# Altium footprint library CONN_HDR_2.54MM_ST.PcbLib: 159 footprints (part 11 of 13)
Each footprint in its own frame and in the unit in brackets; x right, y up, seen from the top. Pads: shape width x height; smd on the part's side, far side on the other; paste and mask are expansions set on the pad; w line width, h text height; cw(c..) or ccw(c..) is an arc to the next point about the centre after c.
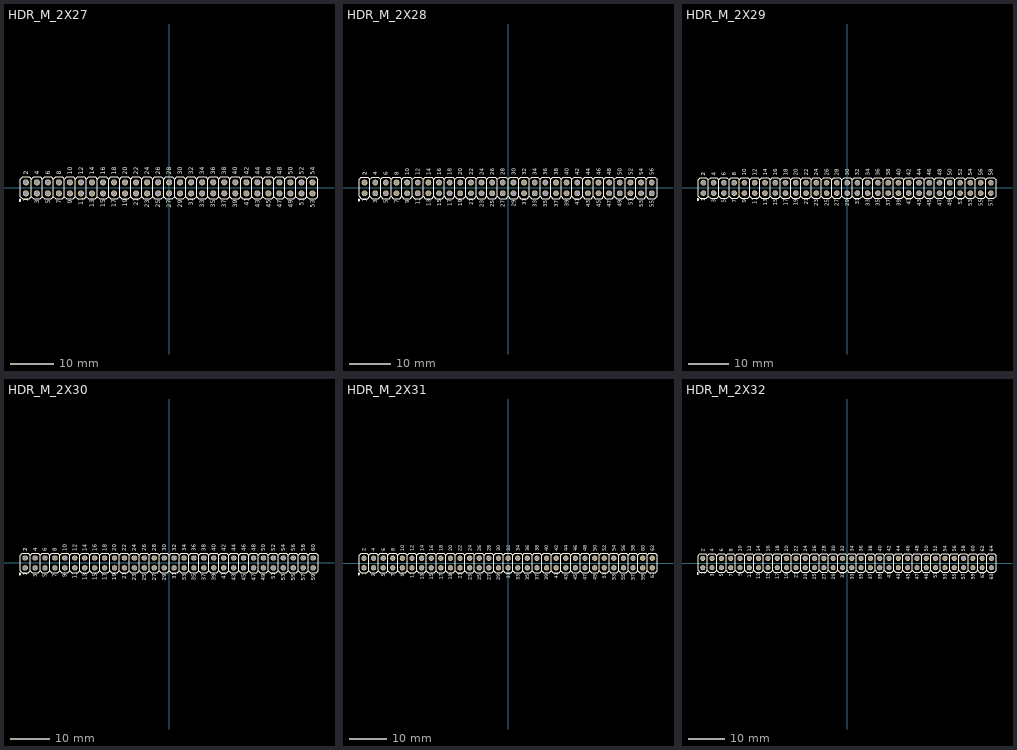
[diagram p10: the footprints below, top view; thin cyan lines are the x and y axes]

## HDR_M_2X27 [mm] "Male Header 2X27 with 2.54 mm Pitch"
pads (54):
  round 1.4 / inner round 1.4 / far side oval 1.4x2.2 hole 1: 1(-33.02,-1.27) 2(-33.02,1.27) 3(-30.48,-1.27) 4(-30.48,1.27) 5(-27.94,-1.27) 6(-27.94,1.27) 7(-25.4,-1.27) 8(-25.4,1.27) 9(-22.86,-1.27) 10(-22.86,1.27) 11(-20.32,-1.27) 12(-20.32,1.27) 13(-17.78,-1.27) 14(-17.78,1.27) 15(-15.24,-1.27) 16(-15.24,1.27) 17(-12.7,-1.27) 18(-12.7,1.27) 19(-10.16,-1.27) 20(-10.16,1.27) 21(-7.62,-1.27) 22(-7.62,1.27) 23(-5.08,-1.27) 24(-5.08,1.27) 25(-2.54,-1.27) 26(-2.54,1.27) 27(0,-1.27) 28(0,1.27) 29(2.54,-1.27) 30(2.54,1.27) 31(5.08,-1.27) 32(5.08,1.27) 33(7.62,-1.27) 34(7.62,1.27) 35(10.16,-1.27) 36(10.16,1.27) 37(12.7,-1.27) 38(12.7,1.27) 39(15.24,-1.27) 40(15.24,1.27) 41(17.78,-1.27) 42(17.78,1.27) 43(20.32,-1.27) 44(20.32,1.27) 45(22.86,-1.27) 46(22.86,1.27) 47(25.4,-1.27) 48(25.4,1.27) 49(27.94,-1.27) 50(27.94,1.27) 51(30.48,-1.27) 52(30.48,1.27) 53(33.02,-1.27) 54(33.02,1.27)
TopOverlay:
  drawing of 191 lines, arcs and shapes, not listed
  text "53" at 33.528,-4.572 h1
  text "54" at 33.528,3.048 h1
  text "51" at 30.988,-4.144 h1
  text "52" at 30.988,3.048 h1
  text "49" at 28.448,-4.524 h1
  text "50" at 28.448,3.048 h1
  text "47" at 25.908,-4.572 h1
  text "48" at 25.908,3.048 h1
  text "45" at 23.368,-4.572 h1
  text "46" at 23.368,3.048 h1
  text "43" at 20.828,-4.572 h1
  text "44" at 20.828,3.048 h1
  text "41" at 18.288,-4.144 h1
  text "42" at 18.288,3.048 h1
  text "39" at 15.748,-4.524 h1
  text "40" at 15.748,3.048 h1
  text "37" at 13.208,-4.572 h1
  text "38" at 13.208,3.048 h1
  text "35" at 10.668,-4.572 h1
  text "36" at 10.668,3.048 h1
  text "33" at 8.128,-4.572 h1
  text "34" at 8.128,3.048 h1
  text "31" at 5.588,-4.144 h1
  text "32" at 5.588,3.048 h1
  text "29" at 3.048,-4.524 h1
  text "30" at 3.048,3.048 h1
  text "27" at 0.508,-4.572 h1
  text "28" at 0.508,3.048 h1
  text "25" at -2.032,-4.572 h1
  text "26" at -2.032,3.048 h1
  text "23" at -4.572,-4.572 h1
  text "24" at -4.572,3.048 h1
  text "21" at -7.112,-4.144 h1
  text "22" at -7.112,3.048 h1
  text "19" at -9.652,-4.367 h1
  text "20" at -9.652,3.048 h1
  text "17" at -12.192,-4.415 h1
  text "18" at -12.192,3.048 h1
  text "15" at -14.732,-4.415 h1
  text "16" at -14.732,3.048 h1
  text "13" at -17.272,-4.415 h1
  text "14" at -17.272,3.048 h1
  text "11" at -19.812,-3.986 h1
  text "12" at -19.812,3.048 h1
  text "9" at -22.352,-3.634 h1
  text "10" at -22.352,3.048 h1
  text "7" at -24.892,-3.682 h1
  text "8" at -24.892,3.048 h1
  text "5" at -27.432,-3.682 h1
  text "6" at -27.432,3.048 h1
  text "3" at -29.972,-3.682 h1
  text "4" at -29.972,3.048 h1
  text "1" at -32.512,-3.253 h1
  text "2" at -32.512,3.048 h1
  text "2" at -32.512,3.048 h1
  text "1" at -32.512,-3.253 h1
3D body "PIN.STEP": height 8.43, standoff -2.49, extent -34.29,0 -31.75,2.54
3D body "PIN_mid.STEP": height 8.43, standoff -2.49, extent 31.75,-2.54 34.29,0
3D body "PIN_mid.STEP": height 8.43, standoff -2.49, extent 29.21,-2.54 31.75,0
3D body "PIN_mid.STEP": height 8.43, standoff -2.49, extent 26.67,-2.54 29.21,0
3D body "PIN_mid.STEP": height 8.43, standoff -2.49, extent 24.13,-2.54 26.67,0
3D body "PIN_mid.STEP": height 8.43, standoff -2.49, extent 21.59,-2.54 24.13,0
3D body "PIN_mid.STEP": height 8.43, standoff -2.49, extent 19.05,-2.54 21.59,0
3D body "PIN_mid.STEP": height 8.43, standoff -2.49, extent 16.51,-2.54 19.05,0
3D body "PIN_mid.STEP": height 8.43, standoff -2.49, extent 13.97,-2.54 16.51,0
3D body "PIN_mid.STEP": height 8.43, standoff -2.49, extent 11.43,-2.54 13.97,0
3D body "PIN_mid.STEP": height 8.43, standoff -2.49, extent 8.89,-2.54 11.43,0
3D body "PIN_mid.STEP": height 8.43, standoff -2.49, extent 6.35,-2.54 8.89,0
3D body "PIN_mid.STEP": height 8.43, standoff -2.49, extent 3.81,-2.54 6.35,0
3D body "PIN_mid.STEP": height 8.43, standoff -2.49, extent 1.27,-2.54 3.81,0
3D body "PIN_mid.STEP": height 8.43, standoff -2.49, extent -1.27,-2.54 1.27,0
3D body "PIN_mid.STEP": height 8.43, standoff -2.49, extent -3.81,-2.54 -1.27,0
3D body "PIN_mid.STEP": height 8.43, standoff -2.49, extent -6.35,-2.54 -3.81,0
3D body "PIN_mid.STEP": height 8.43, standoff -2.49, extent -8.89,-2.54 -6.35,0
3D body "PIN_mid.STEP": height 8.43, standoff -2.49, extent -11.43,-2.54 -8.89,0
3D body "PIN_mid.STEP": height 8.43, standoff -2.49, extent -13.97,-2.54 -11.43,0
3D body "PIN_mid.STEP": height 8.43, standoff -2.49, extent -16.51,-2.54 -13.97,0
3D body "PIN_mid.STEP": height 8.43, standoff -2.49, extent -19.05,-2.54 -16.51,0
3D body "PIN_mid.STEP": height 8.43, standoff -2.49, extent -21.59,-2.54 -19.05,0
3D body "PIN_mid.STEP": height 8.43, standoff -2.49, extent -24.13,-2.54 -21.59,0
3D body "PIN_mid.STEP": height 8.43, standoff -2.49, extent -26.67,-2.54 -24.13,0
3D body "PIN_mid.STEP": height 8.43, standoff -2.49, extent -29.21,-2.54 -26.67,0
3D body "PIN_mid.STEP": height 8.43, standoff -2.49, extent -31.75,-2.54 -29.21,0
3D body "PIN_mid.STEP": height 8.43, standoff -2.49, extent -31.75,0 -29.21,2.54
3D body "PIN_mid.STEP": height 8.43, standoff -2.49, extent 31.75,0 34.29,2.54
3D body "PIN_mid.STEP": height 8.43, standoff -2.49, extent 29.21,0 31.75,2.54
3D body "PIN_mid.STEP": height 8.43, standoff -2.49, extent 26.67,0 29.21,2.54
3D body "PIN_mid.STEP": height 8.43, standoff -2.49, extent 24.13,0 26.67,2.54
3D body "PIN_mid.STEP": height 8.43, standoff -2.49, extent 21.59,0 24.13,2.54
3D body "PIN_mid.STEP": height 8.43, standoff -2.49, extent 19.05,0 21.59,2.54
3D body "PIN_mid.STEP": height 8.43, standoff -2.49, extent 16.51,0 19.05,2.54
3D body "PIN_mid.STEP": height 8.43, standoff -2.49, extent 13.97,0 16.51,2.54
3D body "PIN_mid.STEP": height 8.43, standoff -2.49, extent 11.43,0 13.97,2.54
3D body "PIN_mid.STEP": height 8.43, standoff -2.49, extent 8.89,0 11.43,2.54
3D body "PIN_mid.STEP": height 8.43, standoff -2.49, extent 6.35,0 8.89,2.54
3D body "PIN_mid.STEP": height 8.43, standoff -2.49, extent 3.81,0 6.35,2.54
3D body "PIN_mid.STEP": height 8.43, standoff -2.49, extent 1.27,0 3.81,2.54
3D body "PIN_mid.STEP": height 8.43, standoff -2.49, extent -1.27,0 1.27,2.54
3D body "PIN_mid.STEP": height 8.43, standoff -2.49, extent -3.81,0 -1.27,2.54
3D body "PIN_mid.STEP": height 8.43, standoff -2.49, extent -6.35,0 -3.81,2.54
3D body "PIN_mid.STEP": height 8.43, standoff -2.49, extent -8.89,0 -6.35,2.54
3D body "PIN_mid.STEP": height 8.43, standoff -2.49, extent -11.43,0 -8.89,2.54
3D body "PIN_mid.STEP": height 8.43, standoff -2.49, extent -13.97,0 -11.43,2.54
3D body "PIN_mid.STEP": height 8.43, standoff -2.49, extent -16.51,0 -13.97,2.54
3D body "PIN_mid.STEP": height 8.43, standoff -2.49, extent -19.05,0 -16.51,2.54
3D body "PIN_mid.STEP": height 8.43, standoff -2.49, extent -21.59,0 -19.05,2.54
3D body "PIN_mid.STEP": height 8.43, standoff -2.49, extent -24.13,0 -21.59,2.54
3D body "PIN_mid.STEP": height 8.43, standoff -2.49, extent -26.67,0 -24.13,2.54
3D body "PIN_mid.STEP": height 8.43, standoff -2.49, extent -29.21,0 -26.67,2.54
3D body "PIN.STEP": height 8.43, standoff -2.49, extent -34.29,-2.54 -31.75,0

## HDR_M_2X28 [mm] "Male Header 2X28 with 2.54 mm Pitch"
pads (56):
  round 1.4 / inner round 1.4 / far side oval 1.4x2.2 hole 1: 1(-34.29,-1.27) 2(-34.29,1.27) 3(-31.75,-1.27) 4(-31.75,1.27) 5(-29.21,-1.27) 6(-29.21,1.27) 7(-26.67,-1.27) 8(-26.67,1.27) 9(-24.13,-1.27) 10(-24.13,1.27) 11(-21.59,-1.27) 12(-21.59,1.27) 13(-19.05,-1.27) 14(-19.05,1.27) 15(-16.51,-1.27) 16(-16.51,1.27) 17(-13.97,-1.27) 18(-13.97,1.27) 19(-11.43,-1.27) 20(-11.43,1.27) 21(-8.89,-1.27) 22(-8.89,1.27) 23(-6.35,-1.27) 24(-6.35,1.27) 25(-3.81,-1.27) 26(-3.81,1.27) 27(-1.27,-1.27) 28(-1.27,1.27) 29(1.27,-1.27) 30(1.27,1.27) 31(3.81,-1.27) 32(3.81,1.27) 33(6.35,-1.27) 34(6.35,1.27) 35(8.89,-1.27) 36(8.89,1.27) 37(11.43,-1.27) 38(11.43,1.27) 39(13.97,-1.27) 40(13.97,1.27) 41(16.51,-1.27) 42(16.51,1.27) 43(19.05,-1.27) 44(19.05,1.27) 45(21.59,-1.27) 46(21.59,1.27) 47(24.13,-1.27) 48(24.13,1.27) 49(26.67,-1.27) 50(26.67,1.27) 51(29.21,-1.27) 52(29.21,1.27) 53(31.75,-1.27) 54(31.75,1.27) 55(34.29,-1.27) 56(34.29,1.27)
TopOverlay:
  drawing of 198 lines, arcs and shapes, not listed
  text "1" at -33.782,-3.253 h1
  text "2" at -33.782,3.048 h1
  text "2" at -33.782,3.048 h1
  text "1" at -33.782,-3.253 h1
  text "4" at -31.242,3.048 h1
  text "3" at -31.242,-3.682 h1
  text "6" at -28.702,3.048 h1
  text "5" at -28.702,-3.682 h1
  text "8" at -26.162,3.048 h1
  text "7" at -26.162,-3.682 h1
  text "10" at -23.622,3.048 h1
  text "9" at -23.622,-3.634 h1
  text "12" at -21.082,3.048 h1
  text "11" at -21.082,-3.986 h1
  text "14" at -18.542,3.048 h1
  text "13" at -18.542,-4.415 h1
  text "16" at -16.002,3.048 h1
  text "15" at -16.002,-4.415 h1
  text "18" at -13.462,3.048 h1
  text "17" at -13.462,-4.415 h1
  text "20" at -10.922,3.048 h1
  text "19" at -10.922,-4.367 h1
  text "22" at -8.382,3.048 h1
  text "21" at -8.382,-4.144 h1
  text "24" at -5.842,3.048 h1
  text "23" at -5.842,-4.572 h1
  text "26" at -3.302,3.048 h1
  text "25" at -3.302,-4.572 h1
  text "28" at -0.762,3.048 h1
  text "27" at -0.762,-4.572 h1
  text "30" at 1.778,3.048 h1
  text "29" at 1.778,-4.524 h1
  text "32" at 4.318,3.048 h1
  text "31" at 4.318,-4.144 h1
  text "34" at 6.858,3.048 h1
  text "33" at 6.858,-4.572 h1
  text "36" at 9.398,3.048 h1
  text "35" at 9.398,-4.572 h1
  text "38" at 11.938,3.048 h1
  text "37" at 11.938,-4.572 h1
  text "40" at 14.478,3.048 h1
  text "39" at 14.478,-4.524 h1
  text "42" at 17.018,3.048 h1
  text "41" at 17.018,-4.144 h1
  text "44" at 19.558,3.048 h1
  text "43" at 19.558,-4.572 h1
  text "46" at 22.098,3.048 h1
  text "45" at 22.098,-4.572 h1
  text "48" at 24.638,3.048 h1
  text "47" at 24.638,-4.572 h1
  text "50" at 27.178,3.048 h1
  text "49" at 27.178,-4.524 h1
  text "52" at 29.718,3.048 h1
  text "51" at 29.718,-4.144 h1
  text "54" at 32.258,3.048 h1
  text "53" at 32.258,-4.572 h1
  text "56" at 34.798,3.048 h1
  text "55" at 34.798,-4.572 h1
3D body "PIN.STEP": height 8.43, standoff -2.49, extent -35.56,-2.54 -33.02,0
3D body "PIN_mid.STEP": height 8.43, standoff -2.49, extent -30.48,0 -27.94,2.54
3D body "PIN_mid.STEP": height 8.43, standoff -2.49, extent -27.94,0 -25.4,2.54
3D body "PIN_mid.STEP": height 8.43, standoff -2.49, extent -25.4,0 -22.86,2.54
3D body "PIN_mid.STEP": height 8.43, standoff -2.49, extent -22.86,0 -20.32,2.54
3D body "PIN_mid.STEP": height 8.43, standoff -2.49, extent -20.32,0 -17.78,2.54
3D body "PIN_mid.STEP": height 8.43, standoff -2.49, extent -17.78,0 -15.24,2.54
3D body "PIN_mid.STEP": height 8.43, standoff -2.49, extent -15.24,0 -12.7,2.54
3D body "PIN_mid.STEP": height 8.43, standoff -2.49, extent -12.7,0 -10.16,2.54
3D body "PIN_mid.STEP": height 8.43, standoff -2.49, extent -10.16,0 -7.62,2.54
3D body "PIN_mid.STEP": height 8.43, standoff -2.49, extent -7.62,0 -5.08,2.54
3D body "PIN_mid.STEP": height 8.43, standoff -2.49, extent -5.08,0 -2.54,2.54
3D body "PIN_mid.STEP": height 8.43, standoff -2.49, extent -2.54,0 0,2.54
3D body "PIN_mid.STEP": height 8.43, standoff -2.49, extent 0,0 2.54,2.54
3D body "PIN_mid.STEP": height 8.43, standoff -2.49, extent 2.54,0 5.08,2.54
3D body "PIN_mid.STEP": height 8.43, standoff -2.49, extent 5.08,0 7.62,2.54
3D body "PIN_mid.STEP": height 8.43, standoff -2.49, extent 7.62,0 10.16,2.54
3D body "PIN_mid.STEP": height 8.43, standoff -2.49, extent 10.16,0 12.7,2.54
3D body "PIN_mid.STEP": height 8.43, standoff -2.49, extent 12.7,0 15.24,2.54
3D body "PIN_mid.STEP": height 8.43, standoff -2.49, extent 15.24,0 17.78,2.54
3D body "PIN_mid.STEP": height 8.43, standoff -2.49, extent 17.78,0 20.32,2.54
3D body "PIN_mid.STEP": height 8.43, standoff -2.49, extent 20.32,0 22.86,2.54
3D body "PIN_mid.STEP": height 8.43, standoff -2.49, extent 22.86,0 25.4,2.54
3D body "PIN_mid.STEP": height 8.43, standoff -2.49, extent 25.4,0 27.94,2.54
3D body "PIN_mid.STEP": height 8.43, standoff -2.49, extent 27.94,0 30.48,2.54
3D body "PIN_mid.STEP": height 8.43, standoff -2.49, extent 30.48,0 33.02,2.54
3D body "PIN_mid.STEP": height 8.43, standoff -2.49, extent -33.02,0 -30.48,2.54
3D body "PIN_mid.STEP": height 8.43, standoff -2.49, extent -33.02,-2.54 -30.48,0
3D body "PIN_mid.STEP": height 8.43, standoff -2.49, extent -30.48,-2.54 -27.94,0
3D body "PIN_mid.STEP": height 8.43, standoff -2.49, extent -27.94,-2.54 -25.4,0
3D body "PIN_mid.STEP": height 8.43, standoff -2.49, extent -25.4,-2.54 -22.86,0
3D body "PIN_mid.STEP": height 8.43, standoff -2.49, extent -22.86,-2.54 -20.32,0
3D body "PIN_mid.STEP": height 8.43, standoff -2.49, extent -20.32,-2.54 -17.78,0
3D body "PIN_mid.STEP": height 8.43, standoff -2.49, extent -17.78,-2.54 -15.24,0
3D body "PIN_mid.STEP": height 8.43, standoff -2.49, extent -15.24,-2.54 -12.7,0
3D body "PIN_mid.STEP": height 8.43, standoff -2.49, extent -12.7,-2.54 -10.16,0
3D body "PIN_mid.STEP": height 8.43, standoff -2.49, extent -10.16,-2.54 -7.62,0
3D body "PIN_mid.STEP": height 8.43, standoff -2.49, extent -7.62,-2.54 -5.08,0
3D body "PIN_mid.STEP": height 8.43, standoff -2.49, extent -5.08,-2.54 -2.54,0
3D body "PIN_mid.STEP": height 8.43, standoff -2.49, extent -2.54,-2.54 0,0
3D body "PIN_mid.STEP": height 8.43, standoff -2.49, extent 0,-2.54 2.54,0
3D body "PIN_mid.STEP": height 8.43, standoff -2.49, extent 2.54,-2.54 5.08,0
3D body "PIN_mid.STEP": height 8.43, standoff -2.49, extent 5.08,-2.54 7.62,0
3D body "PIN_mid.STEP": height 8.43, standoff -2.49, extent 7.62,-2.54 10.16,0
3D body "PIN_mid.STEP": height 8.43, standoff -2.49, extent 10.16,-2.54 12.7,0
3D body "PIN_mid.STEP": height 8.43, standoff -2.49, extent 12.7,-2.54 15.24,0
3D body "PIN_mid.STEP": height 8.43, standoff -2.49, extent 15.24,-2.54 17.78,0
3D body "PIN_mid.STEP": height 8.43, standoff -2.49, extent 17.78,-2.54 20.32,0
3D body "PIN_mid.STEP": height 8.43, standoff -2.49, extent 20.32,-2.54 22.86,0
3D body "PIN_mid.STEP": height 8.43, standoff -2.49, extent 22.86,-2.54 25.4,0
3D body "PIN_mid.STEP": height 8.43, standoff -2.49, extent 25.4,-2.54 27.94,0
3D body "PIN_mid.STEP": height 8.43, standoff -2.49, extent 27.94,-2.54 30.48,0
3D body "PIN_mid.STEP": height 8.43, standoff -2.49, extent 30.48,-2.54 33.02,0
3D body "PIN.STEP": height 8.43, standoff -2.49, extent -35.56,0 -33.02,2.54
3D body "PIN.STEP": height 8.43, standoff -2.49, extent 33.02,0 35.56,2.54
3D body "PIN.STEP": height 8.43, standoff -2.49, extent 33.02,-2.54 35.56,0

## HDR_M_2X29 [mm] "Male Header with 2.54 mm Pitch"
pads (58):
  round 1.4 / inner round 1.4 / far side oval 1.4x2.2 hole 1: 1(-35.56,-1.27) 2(-35.56,1.27) 3(-33.02,-1.27) 4(-33.02,1.27) 5(-30.48,-1.27) 6(-30.48,1.27) 7(-27.94,-1.27) 8(-27.94,1.27) 9(-25.4,-1.27) 10(-25.4,1.27) 11(-22.86,-1.27) 12(-22.86,1.27) 13(-20.32,-1.27) 14(-20.32,1.27) 15(-17.78,-1.27) 16(-17.78,1.27) 17(-15.24,-1.27) 18(-15.24,1.27) 19(-12.7,-1.27) 20(-12.7,1.27) 21(-10.16,-1.27) 22(-10.16,1.27) 23(-7.62,-1.27) 24(-7.62,1.27) 25(-5.08,-1.27) 26(-5.08,1.27) 27(-2.54,-1.27) 28(-2.54,1.27) 29(0,-1.27) 30(0,1.27) 31(2.54,-1.27) 32(2.54,1.27) 33(5.08,-1.27) 34(5.08,1.27) 35(7.62,-1.27) 36(7.62,1.27) 37(10.16,-1.27) 38(10.16,1.27) 39(12.7,-1.27) 40(12.7,1.27) 41(15.24,-1.27) 42(15.24,1.27) 43(17.78,-1.27) 44(17.78,1.27) 45(20.32,-1.27) 46(20.32,1.27) 47(22.86,-1.27) 48(22.86,1.27) 49(25.4,-1.27) 50(25.4,1.27) 51(27.94,-1.27) 52(27.94,1.27) 53(30.48,-1.27) 54(30.48,1.27) 55(33.02,-1.27) 56(33.02,1.27) 57(35.56,-1.27) 58(35.56,1.27)
TopOverlay:
  drawing of 205 lines, arcs and shapes, not listed
  text "57" at 36.068,-4.572 h1
  text "58" at 36.068,3.048 h1
  text "55" at 33.528,-4.572 h1
  text "56" at 33.528,3.048 h1
  text "53" at 30.988,-4.572 h1
  text "54" at 30.988,3.048 h1
  text "51" at 28.448,-4.144 h1
  text "52" at 28.448,3.048 h1
  text "49" at 25.908,-4.524 h1
  text "50" at 25.908,3.048 h1
  text "47" at 23.368,-4.572 h1
  text "48" at 23.368,3.048 h1
  text "45" at 20.828,-4.572 h1
  text "46" at 20.828,3.048 h1
  text "43" at 18.288,-4.572 h1
  text "44" at 18.288,3.048 h1
  text "41" at 15.748,-4.144 h1
  text "42" at 15.748,3.048 h1
  text "39" at 13.208,-4.524 h1
  text "40" at 13.208,3.048 h1
  text "37" at 10.668,-4.572 h1
  text "38" at 10.668,3.048 h1
  text "35" at 8.128,-4.572 h1
  text "36" at 8.128,3.048 h1
  text "33" at 5.588,-4.572 h1
  text "34" at 5.588,3.048 h1
  text "31" at 3.048,-4.144 h1
  text "32" at 3.048,3.048 h1
  text "29" at 0.508,-4.524 h1
  text "30" at 0.508,3.048 h1
  text "27" at -2.032,-4.572 h1
  text "28" at -2.032,3.048 h1
  text "25" at -4.572,-4.572 h1
  text "26" at -4.572,3.048 h1
  text "23" at -7.112,-4.572 h1
  text "24" at -7.112,3.048 h1
  text "21" at -9.652,-4.144 h1
  text "22" at -9.652,3.048 h1
  text "19" at -12.192,-4.367 h1
  text "20" at -12.192,3.048 h1
  text "17" at -14.732,-4.415 h1
  text "18" at -14.732,3.048 h1
  text "15" at -17.272,-4.415 h1
  text "16" at -17.272,3.048 h1
  text "13" at -19.812,-4.415 h1
  text "14" at -19.812,3.048 h1
  text "11" at -22.352,-3.986 h1
  text "12" at -22.352,3.048 h1
  text "9" at -24.892,-3.634 h1
  text "10" at -24.892,3.048 h1
  text "7" at -27.432,-3.682 h1
  text "8" at -27.432,3.048 h1
  text "5" at -29.972,-3.682 h1
  text "6" at -29.972,3.048 h1
  text "3" at -32.512,-3.682 h1
  text "4" at -32.512,3.048 h1
  text "1" at -35.052,-3.253 h1
  text "2" at -35.052,3.048 h1
  text "2" at -35.052,3.048 h1
  text "1" at -35.052,-3.253 h1
3D body "PIN.STEP": height 8.43, standoff -2.49, extent -36.83,0 -34.29,2.54
3D body "PIN_mid.STEP": height 8.43, standoff -2.49, extent 34.29,-2.54 36.83,0
3D body "PIN_mid.STEP": height 8.43, standoff -2.49, extent 31.75,-2.54 34.29,0
3D body "PIN_mid.STEP": height 8.43, standoff -2.49, extent 29.21,-2.54 31.75,0
3D body "PIN_mid.STEP": height 8.43, standoff -2.49, extent 26.67,-2.54 29.21,0
3D body "PIN_mid.STEP": height 8.43, standoff -2.49, extent 24.13,-2.54 26.67,0
3D body "PIN_mid.STEP": height 8.43, standoff -2.49, extent 21.59,-2.54 24.13,0
3D body "PIN_mid.STEP": height 8.43, standoff -2.49, extent 19.05,-2.54 21.59,0
3D body "PIN_mid.STEP": height 8.43, standoff -2.49, extent 16.51,-2.54 19.05,0
3D body "PIN_mid.STEP": height 8.43, standoff -2.49, extent 13.97,-2.54 16.51,0
3D body "PIN_mid.STEP": height 8.43, standoff -2.49, extent 11.43,-2.54 13.97,0
3D body "PIN_mid.STEP": height 8.43, standoff -2.49, extent 8.89,-2.54 11.43,0
3D body "PIN_mid.STEP": height 8.43, standoff -2.49, extent 6.35,-2.54 8.89,0
3D body "PIN_mid.STEP": height 8.43, standoff -2.49, extent 3.81,-2.54 6.35,0
3D body "PIN_mid.STEP": height 8.43, standoff -2.49, extent 1.27,-2.54 3.81,0
3D body "PIN_mid.STEP": height 8.43, standoff -2.49, extent -1.27,-2.54 1.27,0
3D body "PIN_mid.STEP": height 8.43, standoff -2.49, extent -3.81,-2.54 -1.27,0
3D body "PIN_mid.STEP": height 8.43, standoff -2.49, extent -6.35,-2.54 -3.81,0
3D body "PIN_mid.STEP": height 8.43, standoff -2.49, extent -8.89,-2.54 -6.35,0
3D body "PIN_mid.STEP": height 8.43, standoff -2.49, extent -11.43,-2.54 -8.89,0
3D body "PIN_mid.STEP": height 8.43, standoff -2.49, extent -13.97,-2.54 -11.43,0
3D body "PIN_mid.STEP": height 8.43, standoff -2.49, extent -16.51,-2.54 -13.97,0
3D body "PIN_mid.STEP": height 8.43, standoff -2.49, extent -19.05,-2.54 -16.51,0
3D body "PIN_mid.STEP": height 8.43, standoff -2.49, extent -21.59,-2.54 -19.05,0
3D body "PIN_mid.STEP": height 8.43, standoff -2.49, extent -24.13,-2.54 -21.59,0
3D body "PIN_mid.STEP": height 8.43, standoff -2.49, extent -26.67,-2.54 -24.13,0
3D body "PIN_mid.STEP": height 8.43, standoff -2.49, extent -29.21,-2.54 -26.67,0
3D body "PIN_mid.STEP": height 8.43, standoff -2.49, extent -31.75,-2.54 -29.21,0
3D body "PIN_mid.STEP": height 8.43, standoff -2.49, extent -34.29,-2.54 -31.75,0
3D body "PIN_mid.STEP": height 8.43, standoff -2.49, extent -34.29,0 -31.75,2.54
3D body "PIN_mid.STEP": height 8.43, standoff -2.49, extent 34.29,0 36.83,2.54
3D body "PIN_mid.STEP": height 8.43, standoff -2.49, extent 31.75,0 34.29,2.54
3D body "PIN_mid.STEP": height 8.43, standoff -2.49, extent 29.21,0 31.75,2.54
3D body "PIN_mid.STEP": height 8.43, standoff -2.49, extent 26.67,0 29.21,2.54
3D body "PIN_mid.STEP": height 8.43, standoff -2.49, extent 24.13,0 26.67,2.54
3D body "PIN_mid.STEP": height 8.43, standoff -2.49, extent 21.59,0 24.13,2.54
3D body "PIN_mid.STEP": height 8.43, standoff -2.49, extent 19.05,0 21.59,2.54
3D body "PIN_mid.STEP": height 8.43, standoff -2.49, extent 16.51,0 19.05,2.54
3D body "PIN_mid.STEP": height 8.43, standoff -2.49, extent 13.97,0 16.51,2.54
3D body "PIN_mid.STEP": height 8.43, standoff -2.49, extent 11.43,0 13.97,2.54
3D body "PIN_mid.STEP": height 8.43, standoff -2.49, extent 8.89,0 11.43,2.54
3D body "PIN_mid.STEP": height 8.43, standoff -2.49, extent 6.35,0 8.89,2.54
3D body "PIN_mid.STEP": height 8.43, standoff -2.49, extent 3.81,0 6.35,2.54
3D body "PIN_mid.STEP": height 8.43, standoff -2.49, extent 1.27,0 3.81,2.54
3D body "PIN_mid.STEP": height 8.43, standoff -2.49, extent -1.27,0 1.27,2.54
3D body "PIN_mid.STEP": height 8.43, standoff -2.49, extent -3.81,0 -1.27,2.54
3D body "PIN_mid.STEP": height 8.43, standoff -2.49, extent -6.35,0 -3.81,2.54
3D body "PIN_mid.STEP": height 8.43, standoff -2.49, extent -8.89,0 -6.35,2.54
3D body "PIN_mid.STEP": height 8.43, standoff -2.49, extent -11.43,0 -8.89,2.54
3D body "PIN_mid.STEP": height 8.43, standoff -2.49, extent -13.97,0 -11.43,2.54
3D body "PIN_mid.STEP": height 8.43, standoff -2.49, extent -16.51,0 -13.97,2.54
3D body "PIN_mid.STEP": height 8.43, standoff -2.49, extent -19.05,0 -16.51,2.54
3D body "PIN_mid.STEP": height 8.43, standoff -2.49, extent -21.59,0 -19.05,2.54
3D body "PIN_mid.STEP": height 8.43, standoff -2.49, extent -24.13,0 -21.59,2.54
3D body "PIN_mid.STEP": height 8.43, standoff -2.49, extent -26.67,0 -24.13,2.54
3D body "PIN_mid.STEP": height 8.43, standoff -2.49, extent -29.21,0 -26.67,2.54
3D body "PIN_mid.STEP": height 8.43, standoff -2.49, extent -31.75,0 -29.21,2.54
3D body "PIN.STEP": height 8.43, standoff -2.49, extent -36.83,-2.54 -34.29,0

## HDR_M_2X30 [mm] "Male Header 2X30 with 2.54 mm Pitch"
pads (60):
  round 1.4 / inner round 1.4 / far side oval 1.4x2.2 hole 1: 1(-36.83,-1.27) 2(-36.83,1.27) 3(-34.29,-1.27) 4(-34.29,1.27) 5(-31.75,-1.27) 6(-31.75,1.27) 7(-29.21,-1.27) 8(-29.21,1.27) 9(-26.67,-1.27) 10(-26.67,1.27) 11(-24.13,-1.27) 12(-24.13,1.27) 13(-21.59,-1.27) 14(-21.59,1.27) 15(-19.05,-1.27) 16(-19.05,1.27) 17(-16.51,-1.27) 18(-16.51,1.27) 19(-13.97,-1.27) 20(-13.97,1.27) 21(-11.43,-1.27) 22(-11.43,1.27) 23(-8.89,-1.27) 24(-8.89,1.27) 25(-6.35,-1.27) 26(-6.35,1.27) 27(-3.81,-1.27) 28(-3.81,1.27) 29(-1.27,-1.27) 30(-1.27,1.27) 31(1.27,-1.27) 32(1.27,1.27) 33(3.81,-1.27) 34(3.81,1.27) 35(6.35,-1.27) 36(6.35,1.27) 37(8.89,-1.27) 38(8.89,1.27) 39(11.43,-1.27) 40(11.43,1.27) 41(13.97,-1.27) 42(13.97,1.27) 43(16.51,-1.27) 44(16.51,1.27) 45(19.05,-1.27) 46(19.05,1.27) 47(21.59,-1.27) 48(21.59,1.27) 49(24.13,-1.27) 50(24.13,1.27) 51(26.67,-1.27) 52(26.67,1.27) 53(29.21,-1.27) 54(29.21,1.27) 55(31.75,-1.27) 56(31.75,1.27) 57(34.29,-1.27) 58(34.29,1.27) 59(36.83,-1.27) 60(36.83,1.27)
TopOverlay:
  drawing of 212 lines, arcs and shapes, not listed
  text "59" at 37.338,-4.524 h1
  text "60" at 37.338,3.048 h1
  text "57" at 34.798,-4.572 h1
  text "58" at 34.798,3.048 h1
  text "55" at 32.258,-4.572 h1
  text "56" at 32.258,3.048 h1
  text "53" at 29.718,-4.572 h1
  text "54" at 29.718,3.048 h1
  text "51" at 27.178,-4.144 h1
  text "52" at 27.178,3.048 h1
  text "49" at 24.638,-4.524 h1
  text "50" at 24.638,3.048 h1
  text "47" at 22.098,-4.572 h1
  text "48" at 22.098,3.048 h1
  text "45" at 19.558,-4.572 h1
  text "46" at 19.558,3.048 h1
  text "43" at 17.018,-4.572 h1
  text "44" at 17.018,3.048 h1
  text "41" at 14.478,-4.144 h1
  text "42" at 14.478,3.048 h1
  text "39" at 11.938,-4.524 h1
  text "40" at 11.938,3.048 h1
  text "37" at 9.398,-4.572 h1
  text "38" at 9.398,3.048 h1
  text "35" at 6.858,-4.572 h1
  text "36" at 6.858,3.048 h1
  text "33" at 4.318,-4.572 h1
  text "34" at 4.318,3.048 h1
  text "31" at 1.778,-4.144 h1
  text "32" at 1.778,3.048 h1
  text "29" at -0.762,-4.524 h1
  text "30" at -0.762,3.048 h1
  text "27" at -3.302,-4.572 h1
  text "28" at -3.302,3.048 h1
  text "25" at -5.842,-4.572 h1
  text "26" at -5.842,3.048 h1
  text "23" at -8.382,-4.572 h1
  text "24" at -8.382,3.048 h1
  text "21" at -10.922,-4.144 h1
  text "22" at -10.922,3.048 h1
  text "19" at -13.462,-4.367 h1
  text "20" at -13.462,3.048 h1
  text "17" at -16.002,-4.415 h1
  text "18" at -16.002,3.048 h1
  text "15" at -18.542,-4.415 h1
  text "16" at -18.542,3.048 h1
  text "13" at -21.082,-4.415 h1
  text "14" at -21.082,3.048 h1
  text "11" at -23.622,-3.986 h1
  text "12" at -23.622,3.048 h1
  text "9" at -26.162,-3.634 h1
  text "10" at -26.162,3.048 h1
  text "7" at -28.702,-3.682 h1
  text "8" at -28.702,3.048 h1
  text "5" at -31.242,-3.682 h1
  text "6" at -31.242,3.048 h1
  text "3" at -33.782,-3.682 h1
  text "4" at -33.782,3.048 h1
  text "1" at -36.322,-3.253 h1
  text "2" at -36.322,3.048 h1
  text "2" at -36.322,3.048 h1
  text "1" at -36.322,-3.253 h1
3D body "PIN.STEP": height 8.43, standoff -2.49, extent 35.56,-2.54 38.1,0
3D body "PIN.STEP": height 8.43, standoff -2.49, extent 35.56,0 38.1,2.54
3D body "PIN.STEP": height 8.43, standoff -2.49, extent -38.1,0 -35.56,2.54
3D body "PIN_mid.STEP": height 8.43, standoff -2.49, extent 33.02,-2.54 35.56,0
3D body "PIN_mid.STEP": height 8.43, standoff -2.49, extent 30.48,-2.54 33.02,0
3D body "PIN_mid.STEP": height 8.43, standoff -2.49, extent 27.94,-2.54 30.48,0
3D body "PIN_mid.STEP": height 8.43, standoff -2.49, extent 25.4,-2.54 27.94,0
3D body "PIN_mid.STEP": height 8.43, standoff -2.49, extent 22.86,-2.54 25.4,0
3D body "PIN_mid.STEP": height 8.43, standoff -2.49, extent 20.32,-2.54 22.86,0
3D body "PIN_mid.STEP": height 8.43, standoff -2.49, extent 17.78,-2.54 20.32,0
3D body "PIN_mid.STEP": height 8.43, standoff -2.49, extent 15.24,-2.54 17.78,0
3D body "PIN_mid.STEP": height 8.43, standoff -2.49, extent 12.7,-2.54 15.24,0
3D body "PIN_mid.STEP": height 8.43, standoff -2.49, extent 10.16,-2.54 12.7,0
3D body "PIN_mid.STEP": height 8.43, standoff -2.49, extent 7.62,-2.54 10.16,0
3D body "PIN_mid.STEP": height 8.43, standoff -2.49, extent 5.08,-2.54 7.62,0
3D body "PIN_mid.STEP": height 8.43, standoff -2.49, extent 2.54,-2.54 5.08,0
3D body "PIN_mid.STEP": height 8.43, standoff -2.49, extent 0,-2.54 2.54,0
3D body "PIN_mid.STEP": height 8.43, standoff -2.49, extent -2.54,-2.54 0,0
3D body "PIN_mid.STEP": height 8.43, standoff -2.49, extent -5.08,-2.54 -2.54,0
3D body "PIN_mid.STEP": height 8.43, standoff -2.49, extent -7.62,-2.54 -5.08,0
3D body "PIN_mid.STEP": height 8.43, standoff -2.49, extent -10.16,-2.54 -7.62,0
3D body "PIN_mid.STEP": height 8.43, standoff -2.49, extent -12.7,-2.54 -10.16,0
3D body "PIN_mid.STEP": height 8.43, standoff -2.49, extent -15.24,-2.54 -12.7,0
3D body "PIN_mid.STEP": height 8.43, standoff -2.49, extent -17.78,-2.54 -15.24,0
3D body "PIN_mid.STEP": height 8.43, standoff -2.49, extent -20.32,-2.54 -17.78,0
3D body "PIN_mid.STEP": height 8.43, standoff -2.49, extent -22.86,-2.54 -20.32,0
3D body "PIN_mid.STEP": height 8.43, standoff -2.49, extent -25.4,-2.54 -22.86,0
3D body "PIN_mid.STEP": height 8.43, standoff -2.49, extent -27.94,-2.54 -25.4,0
3D body "PIN_mid.STEP": height 8.43, standoff -2.49, extent -30.48,-2.54 -27.94,0
3D body "PIN_mid.STEP": height 8.43, standoff -2.49, extent -33.02,-2.54 -30.48,0
3D body "PIN_mid.STEP": height 8.43, standoff -2.49, extent -35.56,-2.54 -33.02,0
3D body "PIN_mid.STEP": height 8.43, standoff -2.49, extent -35.56,0 -33.02,2.54
3D body "PIN_mid.STEP": height 8.43, standoff -2.49, extent 33.02,0 35.56,2.54
3D body "PIN_mid.STEP": height 8.43, standoff -2.49, extent 30.48,0 33.02,2.54
3D body "PIN_mid.STEP": height 8.43, standoff -2.49, extent 27.94,0 30.48,2.54
3D body "PIN_mid.STEP": height 8.43, standoff -2.49, extent 25.4,0 27.94,2.54
3D body "PIN_mid.STEP": height 8.43, standoff -2.49, extent 22.86,0 25.4,2.54
3D body "PIN_mid.STEP": height 8.43, standoff -2.49, extent 20.32,0 22.86,2.54
3D body "PIN_mid.STEP": height 8.43, standoff -2.49, extent 17.78,0 20.32,2.54
3D body "PIN_mid.STEP": height 8.43, standoff -2.49, extent 15.24,0 17.78,2.54
3D body "PIN_mid.STEP": height 8.43, standoff -2.49, extent 12.7,0 15.24,2.54
3D body "PIN_mid.STEP": height 8.43, standoff -2.49, extent 10.16,0 12.7,2.54
3D body "PIN_mid.STEP": height 8.43, standoff -2.49, extent 7.62,0 10.16,2.54
3D body "PIN_mid.STEP": height 8.43, standoff -2.49, extent 5.08,0 7.62,2.54
3D body "PIN_mid.STEP": height 8.43, standoff -2.49, extent 2.54,0 5.08,2.54
3D body "PIN_mid.STEP": height 8.43, standoff -2.49, extent 0,0 2.54,2.54
3D body "PIN_mid.STEP": height 8.43, standoff -2.49, extent -2.54,0 0,2.54
3D body "PIN_mid.STEP": height 8.43, standoff -2.49, extent -5.08,0 -2.54,2.54
3D body "PIN_mid.STEP": height 8.43, standoff -2.49, extent -7.62,0 -5.08,2.54
3D body "PIN_mid.STEP": height 8.43, standoff -2.49, extent -10.16,0 -7.62,2.54
3D body "PIN_mid.STEP": height 8.43, standoff -2.49, extent -12.7,0 -10.16,2.54
3D body "PIN_mid.STEP": height 8.43, standoff -2.49, extent -15.24,0 -12.7,2.54
3D body "PIN_mid.STEP": height 8.43, standoff -2.49, extent -17.78,0 -15.24,2.54
3D body "PIN_mid.STEP": height 8.43, standoff -2.49, extent -20.32,0 -17.78,2.54
3D body "PIN_mid.STEP": height 8.43, standoff -2.49, extent -22.86,0 -20.32,2.54
3D body "PIN_mid.STEP": height 8.43, standoff -2.49, extent -25.4,0 -22.86,2.54
3D body "PIN_mid.STEP": height 8.43, standoff -2.49, extent -27.94,0 -25.4,2.54
3D body "PIN_mid.STEP": height 8.43, standoff -2.49, extent -30.48,0 -27.94,2.54
3D body "PIN_mid.STEP": height 8.43, standoff -2.49, extent -33.02,0 -30.48,2.54
3D body "PIN.STEP": height 8.43, standoff -2.49, extent -38.1,-2.54 -35.56,0

## HDR_M_2X31 [mm] "Male Header with 2.54 mm Pitch"
pads (62):
  round 1.4 / inner round 1.4 / far side oval 1.4x2.2 hole 1: 1(-38.1,-1.27) 2(-38.1,1.27) 3(-35.56,-1.27) 4(-35.56,1.27) 5(-33.02,-1.27) 6(-33.02,1.27) 7(-30.48,-1.27) 8(-30.48,1.27) 9(-27.94,-1.27) 10(-27.94,1.27) 11(-25.4,-1.27) 12(-25.4,1.27) 13(-22.86,-1.27) 14(-22.86,1.27) 15(-20.32,-1.27) 16(-20.32,1.27) 17(-17.78,-1.27) 18(-17.78,1.27) 19(-15.24,-1.27) 20(-15.24,1.27) 21(-12.7,-1.27) 22(-12.7,1.27) 23(-10.16,-1.27) 24(-10.16,1.27) 25(-7.62,-1.27) 26(-7.62,1.27) 27(-5.08,-1.27) 28(-5.08,1.27) 29(-2.54,-1.27) 30(-2.54,1.27) 31(0,-1.27) 32(0,1.27) 33(2.54,-1.27) 34(2.54,1.27) 35(5.08,-1.27) 36(5.08,1.27) 37(7.62,-1.27) 38(7.62,1.27) 39(10.16,-1.27) 40(10.16,1.27) 41(12.7,-1.27) 42(12.7,1.27) 43(15.24,-1.27) 44(15.24,1.27) 45(17.78,-1.27) 46(17.78,1.27) 47(20.32,-1.27) 48(20.32,1.27) 49(22.86,-1.27) 50(22.86,1.27) 51(25.4,-1.27) 52(25.4,1.27) 53(27.94,-1.27) 54(27.94,1.27) 55(30.48,-1.27) 56(30.48,1.27) 57(33.02,-1.27) 58(33.02,1.27) 59(35.56,-1.27) 60(35.56,1.27) 61(38.1,-1.27) 62(38.1,1.27)
TopOverlay:
  drawing of 219 lines, arcs and shapes, not listed
  text "2" at -37.592,3.048 h1
  text "1" at -37.592,-3.253 h1
  text "4" at -35.052,3.048 h1
  text "3" at -35.052,-3.682 h1
  text "6" at -32.512,3.048 h1
  text "5" at -32.512,-3.682 h1
  text "8" at -29.972,3.048 h1
  text "7" at -29.972,-3.682 h1
  text "10" at -27.432,3.048 h1
  text "9" at -27.432,-3.634 h1
  text "12" at -24.892,3.048 h1
  text "11" at -24.892,-3.986 h1
  text "14" at -22.352,3.048 h1
  text "13" at -22.352,-4.415 h1
  text "16" at -19.812,3.048 h1
  text "15" at -19.812,-4.415 h1
  text "18" at -17.272,3.048 h1
  text "17" at -17.272,-4.415 h1
  text "20" at -14.732,3.048 h1
  text "19" at -14.732,-4.367 h1
  text "22" at -12.192,3.048 h1
  text "21" at -12.192,-4.144 h1
  text "24" at -9.652,3.048 h1
  text "23" at -9.652,-4.572 h1
  text "26" at -7.112,3.048 h1
  text "25" at -7.112,-4.572 h1
  text "28" at -4.572,3.048 h1
  text "27" at -4.572,-4.572 h1
  text "30" at -2.032,3.048 h1
  text "29" at -2.032,-4.524 h1
  text "32" at 0.508,3.048 h1
  text "31" at 0.508,-4.144 h1
  text "34" at 3.048,3.048 h1
  text "33" at 3.048,-4.572 h1
  text "36" at 5.588,3.048 h1
  text "35" at 5.588,-4.572 h1
  text "38" at 8.128,3.048 h1
  text "37" at 8.128,-4.572 h1
  text "40" at 10.668,3.048 h1
  text "39" at 10.668,-4.524 h1
  text "42" at 13.208,3.048 h1
  text "41" at 13.208,-4.144 h1
  text "44" at 15.748,3.048 h1
  text "43" at 15.748,-4.572 h1
  text "46" at 18.288,3.048 h1
  text "45" at 18.288,-4.572 h1
  text "48" at 20.828,3.048 h1
  text "47" at 20.828,-4.572 h1
  text "50" at 23.368,3.048 h1
  text "49" at 23.368,-4.524 h1
  text "52" at 25.908,3.048 h1
  text "51" at 25.908,-4.144 h1
  text "54" at 28.448,3.048 h1
  text "53" at 28.448,-4.572 h1
  text "56" at 30.988,3.048 h1
  text "55" at 30.988,-4.572 h1
  text "58" at 33.528,3.048 h1
  text "57" at 33.528,-4.572 h1
  text "60" at 36.068,3.048 h1
  text "59" at 36.068,-4.524 h1
  text "62" at 38.608,3.048 h1
  text "61" at 38.608,-4.091 h1
3D body "PIN.STEP": height 8.43, standoff -2.49, extent -39.37,-2.54 -36.83,0
3D body "PIN_mid.STEP": height 8.43, standoff -2.49, extent -34.29,0 -31.75,2.54
3D body "PIN_mid.STEP": height 8.43, standoff -2.49, extent -31.75,0 -29.21,2.54
3D body "PIN_mid.STEP": height 8.43, standoff -2.49, extent -29.21,0 -26.67,2.54
3D body "PIN_mid.STEP": height 8.43, standoff -2.49, extent -26.67,0 -24.13,2.54
3D body "PIN_mid.STEP": height 8.43, standoff -2.49, extent -24.13,0 -21.59,2.54
3D body "PIN_mid.STEP": height 8.43, standoff -2.49, extent -21.59,0 -19.05,2.54
3D body "PIN_mid.STEP": height 8.43, standoff -2.49, extent -19.05,0 -16.51,2.54
3D body "PIN_mid.STEP": height 8.43, standoff -2.49, extent -16.51,0 -13.97,2.54
3D body "PIN_mid.STEP": height 8.43, standoff -2.49, extent -13.97,0 -11.43,2.54
3D body "PIN_mid.STEP": height 8.43, standoff -2.49, extent -11.43,0 -8.89,2.54
3D body "PIN_mid.STEP": height 8.43, standoff -2.49, extent -8.89,0 -6.35,2.54
3D body "PIN_mid.STEP": height 8.43, standoff -2.49, extent -6.35,0 -3.81,2.54
3D body "PIN_mid.STEP": height 8.43, standoff -2.49, extent -3.81,0 -1.27,2.54
3D body "PIN_mid.STEP": height 8.43, standoff -2.49, extent -1.27,0 1.27,2.54
3D body "PIN_mid.STEP": height 8.43, standoff -2.49, extent 1.27,0 3.81,2.54
3D body "PIN_mid.STEP": height 8.43, standoff -2.49, extent 3.81,0 6.35,2.54
3D body "PIN_mid.STEP": height 8.43, standoff -2.49, extent 6.35,0 8.89,2.54
3D body "PIN_mid.STEP": height 8.43, standoff -2.49, extent 8.89,0 11.43,2.54
3D body "PIN_mid.STEP": height 8.43, standoff -2.49, extent 11.43,0 13.97,2.54
3D body "PIN_mid.STEP": height 8.43, standoff -2.49, extent 13.97,0 16.51,2.54
3D body "PIN_mid.STEP": height 8.43, standoff -2.49, extent 16.51,0 19.05,2.54
3D body "PIN_mid.STEP": height 8.43, standoff -2.49, extent 19.05,0 21.59,2.54
3D body "PIN_mid.STEP": height 8.43, standoff -2.49, extent 21.59,0 24.13,2.54
3D body "PIN_mid.STEP": height 8.43, standoff -2.49, extent 24.13,0 26.67,2.54
3D body "PIN_mid.STEP": height 8.43, standoff -2.49, extent 26.67,0 29.21,2.54
3D body "PIN_mid.STEP": height 8.43, standoff -2.49, extent 29.21,0 31.75,2.54
3D body "PIN_mid.STEP": height 8.43, standoff -2.49, extent 31.75,0 34.29,2.54
3D body "PIN_mid.STEP": height 8.43, standoff -2.49, extent 34.29,0 36.83,2.54
3D body "PIN_mid.STEP": height 8.43, standoff -2.49, extent 36.83,0 39.37,2.54
3D body "PIN_mid.STEP": height 8.43, standoff -2.49, extent -36.83,0 -34.29,2.54
3D body "PIN_mid.STEP": height 8.43, standoff -2.49, extent -36.83,-2.54 -34.29,0
3D body "PIN_mid.STEP": height 8.43, standoff -2.49, extent -34.29,-2.54 -31.75,0
3D body "PIN_mid.STEP": height 8.43, standoff -2.49, extent -31.75,-2.54 -29.21,0
3D body "PIN_mid.STEP": height 8.43, standoff -2.49, extent -29.21,-2.54 -26.67,0
3D body "PIN_mid.STEP": height 8.43, standoff -2.49, extent -26.67,-2.54 -24.13,0
3D body "PIN_mid.STEP": height 8.43, standoff -2.49, extent -24.13,-2.54 -21.59,0
3D body "PIN_mid.STEP": height 8.43, standoff -2.49, extent -21.59,-2.54 -19.05,0
3D body "PIN_mid.STEP": height 8.43, standoff -2.49, extent -19.05,-2.54 -16.51,0
3D body "PIN_mid.STEP": height 8.43, standoff -2.49, extent -16.51,-2.54 -13.97,0
3D body "PIN_mid.STEP": height 8.43, standoff -2.49, extent -13.97,-2.54 -11.43,0
3D body "PIN_mid.STEP": height 8.43, standoff -2.49, extent -11.43,-2.54 -8.89,0
3D body "PIN_mid.STEP": height 8.43, standoff -2.49, extent -8.89,-2.54 -6.35,0
3D body "PIN_mid.STEP": height 8.43, standoff -2.49, extent -6.35,-2.54 -3.81,0
3D body "PIN_mid.STEP": height 8.43, standoff -2.49, extent -3.81,-2.54 -1.27,0
3D body "PIN_mid.STEP": height 8.43, standoff -2.49, extent -1.27,-2.54 1.27,0
3D body "PIN_mid.STEP": height 8.43, standoff -2.49, extent 1.27,-2.54 3.81,0
3D body "PIN_mid.STEP": height 8.43, standoff -2.49, extent 3.81,-2.54 6.35,0
3D body "PIN_mid.STEP": height 8.43, standoff -2.49, extent 6.35,-2.54 8.89,0
3D body "PIN_mid.STEP": height 8.43, standoff -2.49, extent 8.89,-2.54 11.43,0
3D body "PIN_mid.STEP": height 8.43, standoff -2.49, extent 11.43,-2.54 13.97,0
3D body "PIN_mid.STEP": height 8.43, standoff -2.49, extent 13.97,-2.54 16.51,0
3D body "PIN_mid.STEP": height 8.43, standoff -2.49, extent 16.51,-2.54 19.05,0
3D body "PIN_mid.STEP": height 8.43, standoff -2.49, extent 19.05,-2.54 21.59,0
3D body "PIN_mid.STEP": height 8.43, standoff -2.49, extent 21.59,-2.54 24.13,0
3D body "PIN_mid.STEP": height 8.43, standoff -2.49, extent 24.13,-2.54 26.67,0
3D body "PIN_mid.STEP": height 8.43, standoff -2.49, extent 26.67,-2.54 29.21,0
3D body "PIN_mid.STEP": height 8.43, standoff -2.49, extent 29.21,-2.54 31.75,0
3D body "PIN_mid.STEP": height 8.43, standoff -2.49, extent 31.75,-2.54 34.29,0
3D body "PIN_mid.STEP": height 8.43, standoff -2.49, extent 34.29,-2.54 36.83,0
3D body "PIN_mid.STEP": height 8.43, standoff -2.49, extent 36.83,-2.54 39.37,0
3D body "PIN.STEP": height 8.43, standoff -2.49, extent -39.37,0 -36.83,2.54

## HDR_M_2X32 [mm] "Male Header 2X32 with 2.54 mm Pitch"
pads (64):
  round 1.4 / inner round 1.4 / far side oval 1.4x2.2 hole 1: 1(-39.37,-1.27) 2(-39.37,1.27) 3(-36.83,-1.27) 4(-36.83,1.27) 5(-34.29,-1.27) 6(-34.29,1.27) 7(-31.75,-1.27) 8(-31.75,1.27) 9(-29.21,-1.27) 10(-29.21,1.27) 11(-26.67,-1.27) 12(-26.67,1.27) 13(-24.13,-1.27) 14(-24.13,1.27) 15(-21.59,-1.27) 16(-21.59,1.27) 17(-19.05,-1.27) 18(-19.05,1.27) 19(-16.51,-1.27) 20(-16.51,1.27) 21(-13.97,-1.27) 22(-13.97,1.27) 23(-11.43,-1.27) 24(-11.43,1.27) 25(-8.89,-1.27) 26(-8.89,1.27) 27(-6.35,-1.27) 28(-6.35,1.27) 29(-3.81,-1.27) 30(-3.81,1.27) 31(-1.27,-1.27) 32(-1.27,1.27) 33(1.27,-1.27) 34(1.27,1.27) 35(3.81,-1.27) 36(3.81,1.27) 37(6.35,-1.27) 38(6.35,1.27) 39(8.89,-1.27) 40(8.89,1.27) 41(11.43,-1.27) 42(11.43,1.27) 43(13.97,-1.27) 44(13.97,1.27) 45(16.51,-1.27) 46(16.51,1.27) 47(19.05,-1.27) 48(19.05,1.27) 49(21.59,-1.27) 50(21.59,1.27) 51(24.13,-1.27) 52(24.13,1.27) 53(26.67,-1.27) 54(26.67,1.27) 55(29.21,-1.27) 56(29.21,1.27) 57(31.75,-1.27) 58(31.75,1.27) 59(34.29,-1.27) 60(34.29,1.27) 61(36.83,-1.27) 62(36.83,1.27) 63(39.37,-1.27) 64(39.37,1.27)
TopOverlay:
  drawing of 226 lines, arcs and shapes, not listed
  text "2" at -38.862,3.048 h1
  text "1" at -38.862,-3.253 h1
  text "4" at -36.322,3.048 h1
  text "3" at -36.322,-3.682 h1
  text "6" at -33.782,3.048 h1
  text "5" at -33.782,-3.682 h1
  text "8" at -31.242,3.048 h1
  text "7" at -31.242,-3.682 h1
  text "10" at -28.702,3.048 h1
  text "9" at -28.702,-3.634 h1
  text "12" at -26.162,3.048 h1
  text "11" at -26.162,-3.986 h1
  text "14" at -23.622,3.048 h1
  text "13" at -23.622,-4.415 h1
  text "16" at -21.082,3.048 h1
  text "15" at -21.082,-4.415 h1
  text "18" at -18.542,3.048 h1
  text "17" at -18.542,-4.415 h1
  text "20" at -16.002,3.048 h1
  text "19" at -16.002,-4.367 h1
  text "22" at -13.462,3.048 h1
  text "21" at -13.462,-4.144 h1
  text "24" at -10.922,3.048 h1
  text "23" at -10.922,-4.572 h1
  text "26" at -8.382,3.048 h1
  text "25" at -8.382,-4.572 h1
  text "28" at -5.842,3.048 h1
  text "27" at -5.842,-4.572 h1
  text "30" at -3.302,3.048 h1
  text "29" at -3.302,-4.524 h1
  text "32" at -0.762,3.048 h1
  text "31" at -0.762,-4.144 h1
  text "34" at 1.778,3.048 h1
  text "33" at 1.778,-4.572 h1
  text "36" at 4.318,3.048 h1
  text "35" at 4.318,-4.572 h1
  text "38" at 6.858,3.048 h1
  text "37" at 6.858,-4.572 h1
  text "40" at 9.398,3.048 h1
  text "39" at 9.398,-4.524 h1
  text "42" at 11.938,3.048 h1
  text "41" at 11.938,-4.144 h1
  text "44" at 14.478,3.048 h1
  text "43" at 14.478,-4.572 h1
  text "46" at 17.018,3.048 h1
  text "45" at 17.018,-4.572 h1
  text "48" at 19.558,3.048 h1
  text "47" at 19.558,-4.572 h1
  text "50" at 22.098,3.048 h1
  text "49" at 22.098,-4.524 h1
  text "52" at 24.638,3.048 h1
  text "51" at 24.638,-4.144 h1
  text "54" at 27.178,3.048 h1
  text "53" at 27.178,-4.572 h1
  text "56" at 29.718,3.048 h1
  text "55" at 29.718,-4.572 h1
  text "58" at 32.258,3.048 h1
  text "57" at 32.258,-4.572 h1
  text "60" at 34.798,3.048 h1
  text "59" at 34.798,-4.524 h1
  text "62" at 37.338,3.048 h1
  text "61" at 37.338,-4.091 h1
  text "64" at 39.878,3.048 h1
  text "63" at 39.878,-4.52 h1
3D body "PIN.STEP": height 8.43, standoff -2.49, extent -40.64,-2.54 -38.1,0
3D body "PIN_mid.STEP": height 8.43, standoff -2.49, extent -35.56,0 -33.02,2.54
3D body "PIN_mid.STEP": height 8.43, standoff -2.49, extent -33.02,0 -30.48,2.54
3D body "PIN_mid.STEP": height 8.43, standoff -2.49, extent -30.48,0 -27.94,2.54
3D body "PIN_mid.STEP": height 8.43, standoff -2.49, extent -27.94,0 -25.4,2.54
3D body "PIN_mid.STEP": height 8.43, standoff -2.49, extent -25.4,0 -22.86,2.54
3D body "PIN_mid.STEP": height 8.43, standoff -2.49, extent -22.86,0 -20.32,2.54
3D body "PIN_mid.STEP": height 8.43, standoff -2.49, extent -20.32,0 -17.78,2.54
3D body "PIN_mid.STEP": height 8.43, standoff -2.49, extent -17.78,0 -15.24,2.54
3D body "PIN_mid.STEP": height 8.43, standoff -2.49, extent -15.24,0 -12.7,2.54
3D body "PIN_mid.STEP": height 8.43, standoff -2.49, extent -12.7,0 -10.16,2.54
3D body "PIN_mid.STEP": height 8.43, standoff -2.49, extent -10.16,0 -7.62,2.54
3D body "PIN_mid.STEP": height 8.43, standoff -2.49, extent -7.62,0 -5.08,2.54
3D body "PIN_mid.STEP": height 8.43, standoff -2.49, extent -5.08,0 -2.54,2.54
3D body "PIN_mid.STEP": height 8.43, standoff -2.49, extent -2.54,0 0,2.54
3D body "PIN_mid.STEP": height 8.43, standoff -2.49, extent 0,0 2.54,2.54
3D body "PIN_mid.STEP": height 8.43, standoff -2.49, extent 2.54,0 5.08,2.54
3D body "PIN_mid.STEP": height 8.43, standoff -2.49, extent 5.08,0 7.62,2.54
3D body "PIN_mid.STEP": height 8.43, standoff -2.49, extent 7.62,0 10.16,2.54
3D body "PIN_mid.STEP": height 8.43, standoff -2.49, extent 10.16,0 12.7,2.54
3D body "PIN_mid.STEP": height 8.43, standoff -2.49, extent 12.7,0 15.24,2.54
3D body "PIN_mid.STEP": height 8.43, standoff -2.49, extent 15.24,0 17.78,2.54
3D body "PIN_mid.STEP": height 8.43, standoff -2.49, extent 17.78,0 20.32,2.54
3D body "PIN_mid.STEP": height 8.43, standoff -2.49, extent 20.32,0 22.86,2.54
3D body "PIN_mid.STEP": height 8.43, standoff -2.49, extent 22.86,0 25.4,2.54
3D body "PIN_mid.STEP": height 8.43, standoff -2.49, extent 25.4,0 27.94,2.54
3D body "PIN_mid.STEP": height 8.43, standoff -2.49, extent 27.94,0 30.48,2.54
3D body "PIN_mid.STEP": height 8.43, standoff -2.49, extent 30.48,0 33.02,2.54
3D body "PIN_mid.STEP": height 8.43, standoff -2.49, extent 33.02,0 35.56,2.54
3D body "PIN_mid.STEP": height 8.43, standoff -2.49, extent 35.56,0 38.1,2.54
3D body "PIN_mid.STEP": height 8.43, standoff -2.49, extent -38.1,0 -35.56,2.54
3D body "PIN_mid.STEP": height 8.43, standoff -2.49, extent -38.1,-2.54 -35.56,0
3D body "PIN_mid.STEP": height 8.43, standoff -2.49, extent -35.56,-2.54 -33.02,0
3D body "PIN_mid.STEP": height 8.43, standoff -2.49, extent -33.02,-2.54 -30.48,0
3D body "PIN_mid.STEP": height 8.43, standoff -2.49, extent -30.48,-2.54 -27.94,0
3D body "PIN_mid.STEP": height 8.43, standoff -2.49, extent -27.94,-2.54 -25.4,0
3D body "PIN_mid.STEP": height 8.43, standoff -2.49, extent -25.4,-2.54 -22.86,0
3D body "PIN_mid.STEP": height 8.43, standoff -2.49, extent -22.86,-2.54 -20.32,0
3D body "PIN_mid.STEP": height 8.43, standoff -2.49, extent -20.32,-2.54 -17.78,0
3D body "PIN_mid.STEP": height 8.43, standoff -2.49, extent -17.78,-2.54 -15.24,0
3D body "PIN_mid.STEP": height 8.43, standoff -2.49, extent -15.24,-2.54 -12.7,0
3D body "PIN_mid.STEP": height 8.43, standoff -2.49, extent -12.7,-2.54 -10.16,0
3D body "PIN_mid.STEP": height 8.43, standoff -2.49, extent -10.16,-2.54 -7.62,0
3D body "PIN_mid.STEP": height 8.43, standoff -2.49, extent -7.62,-2.54 -5.08,0
3D body "PIN_mid.STEP": height 8.43, standoff -2.49, extent -5.08,-2.54 -2.54,0
3D body "PIN_mid.STEP": height 8.43, standoff -2.49, extent -2.54,-2.54 0,0
3D body "PIN_mid.STEP": height 8.43, standoff -2.49, extent 0,-2.54 2.54,0
3D body "PIN_mid.STEP": height 8.43, standoff -2.49, extent 2.54,-2.54 5.08,0
3D body "PIN_mid.STEP": height 8.43, standoff -2.49, extent 5.08,-2.54 7.62,0
3D body "PIN_mid.STEP": height 8.43, standoff -2.49, extent 7.62,-2.54 10.16,0
3D body "PIN_mid.STEP": height 8.43, standoff -2.49, extent 10.16,-2.54 12.7,0
3D body "PIN_mid.STEP": height 8.43, standoff -2.49, extent 12.7,-2.54 15.24,0
3D body "PIN_mid.STEP": height 8.43, standoff -2.49, extent 15.24,-2.54 17.78,0
3D body "PIN_mid.STEP": height 8.43, standoff -2.49, extent 17.78,-2.54 20.32,0
3D body "PIN_mid.STEP": height 8.43, standoff -2.49, extent 20.32,-2.54 22.86,0
3D body "PIN_mid.STEP": height 8.43, standoff -2.49, extent 22.86,-2.54 25.4,0
3D body "PIN_mid.STEP": height 8.43, standoff -2.49, extent 25.4,-2.54 27.94,0
3D body "PIN_mid.STEP": height 8.43, standoff -2.49, extent 27.94,-2.54 30.48,0
3D body "PIN_mid.STEP": height 8.43, standoff -2.49, extent 30.48,-2.54 33.02,0
3D body "PIN_mid.STEP": height 8.43, standoff -2.49, extent 33.02,-2.54 35.56,0
3D body "PIN_mid.STEP": height 8.43, standoff -2.49, extent 35.56,-2.54 38.1,0
3D body "PIN.STEP": height 8.43, standoff -2.49, extent -40.64,0 -38.1,2.54
3D body "PIN.STEP": height 8.43, standoff -2.49, extent 38.1,0 40.64,2.54
3D body "PIN.STEP": height 8.43, standoff -2.49, extent 38.1,-2.54 40.64,0